# EAGLE library part LM25085 (library MinotaurParts)
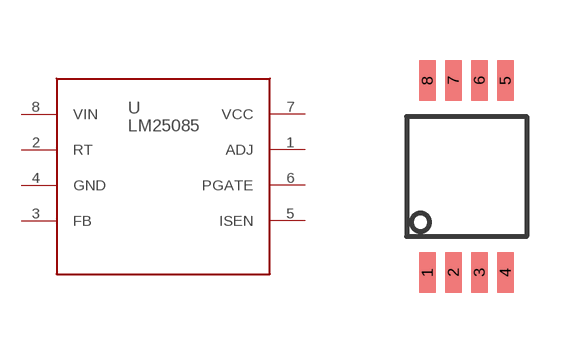
[diagram p6: symbol with the pads of MSOP-8; footprint MSOP-8]

Designator prefix -

## LM25085  [MSOP-8]
1  ADJ
2  RT
3  FB
4  GND
5  ISEN
6  PGATE
7  VCC
8  VIN

## Footprint MSOP-8 (pad centres in mm)
smd 0.41 x 1.02: 1 -0.975,-2.4; 2 -0.325,-2.4; 3 0.325,-2.4; 4 0.975,-2.4; 5 0.975,2.4; 6 0.325,2.4; 7 -0.325,2.4; 8 -0.975,2.4